# Altium footprint library LCD_Controller_Baord.PcbLib: 16 footprints
Each footprint in its own frame and in the unit in brackets; x right, y up, seen from the top. Pads: shape width x height; smd on the part's side, far side on the other; paste and mask are expansions set on the pad; w line width, h text height; cw(c..) or ccw(c..) is an arc to the next point about the centre after c.
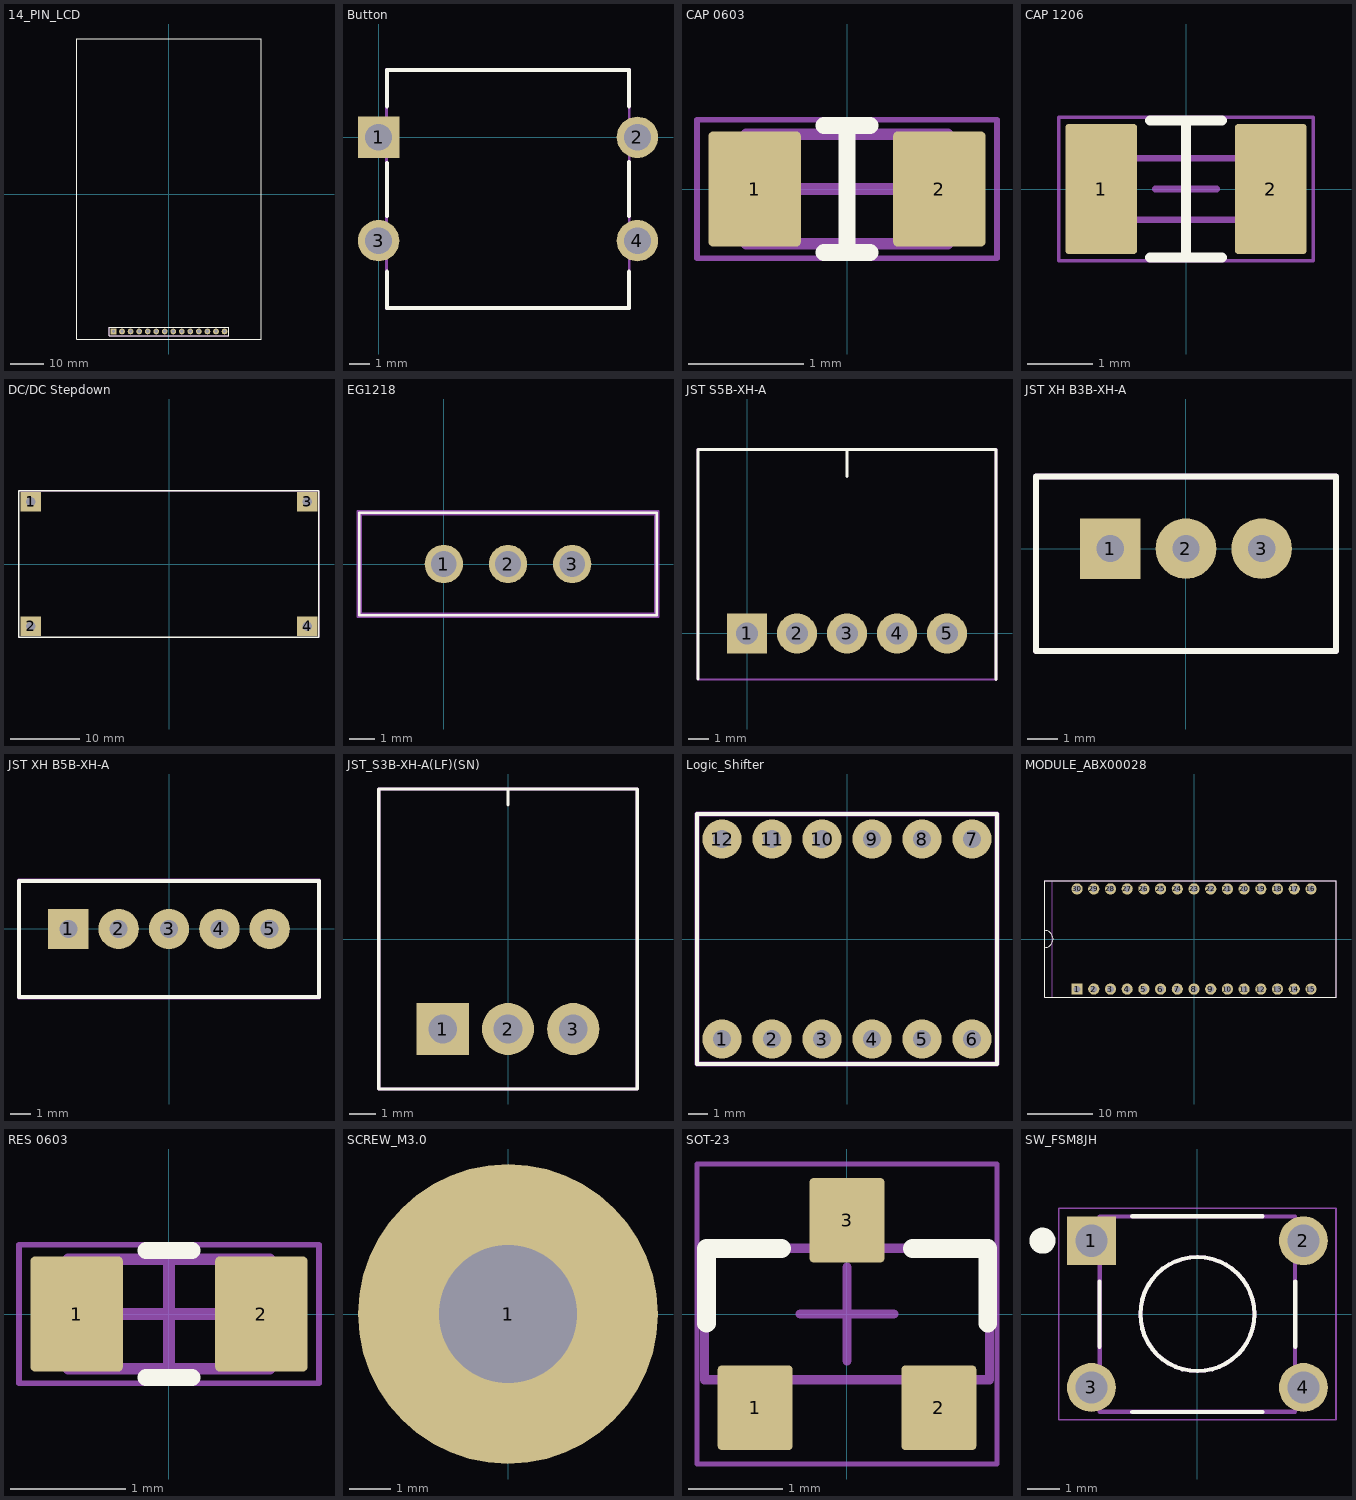
[diagram p0: the footprints below, top view; thin cyan lines are the x and y axes]

## 14_PIN_LCD [mm]
pads (14):
  rect 1.7x1.7 / inner round 1.7 / far side rect 1.7x1.7 hole 1.016: 1(-16.51,-40.767)
  round 1.7 hole 1.016: 2(-13.97,-40.767) 3(-11.43,-40.767) 4(-8.89,-40.767) 5(-6.35,-40.767) 6(-3.81,-40.767) 7(-1.27,-40.767) 8(1.27,-40.767) 9(3.81,-40.767) 10(6.35,-40.767) 11(8.89,-40.767) 12(11.43,-40.767) 13(13.97,-40.767) 14(16.51,-40.767)
Top Overlay:
  lines w0.127: -17.78,-42.037 17.78,-42.037 17.78,-39.497 -17.78,-39.497 -17.78,-42.037
  lines w0.254: -27.5,-43.014 27.5,-43.014 27.5,46.186 -27.5,46.186 -27.5,-43.014
Mechanical 13:
  lines w0.127: -17.78,-42.037 -17.78,-39.497 17.78,-39.497 17.78,-42.037 -17.78,-42.037
Mechanical 15:
  lines w0.05: -17.78,-42.037 -17.78,-39.497 17.78,-39.497 17.78,-42.037 -17.78,-42.037
3D body "320x240v2.step": height 8, standoff -4.54, extent -27.393,-42.945 27.647,46.355

## Button [mm]
pads (4):
  rect 2x2 hole 1.3: 1(0,0)
  round 2 hole 1.3: 2(12.5,0) 3(0,-5) 4(12.5,-5)
Top Overlay:
  lines w0.2: 0.4,-6.5 0.4,-8.25 12.1,-8.25 12.1,-6.5 ; 0.4,-3.8 0.4,-1.25 ; 0.4,1.5 0.4,3.25 12.1,3.25 12.1,1.5 ; 12.1,-3.8 12.1,-1.2
Mechanical 15:
  lines w0.1: 0.4,-8.25 12.1,-8.25 12.1,3.25 0.4,3.25 0.4,-8.25
Mechanical 20:
  lines w0.05: 0.35,3.3 0.35,-8.3 12.15,-8.3 12.15,3.3
  lines w0.1: 0.35,3.3 12.15,3.3

## CAP 0603 [mm] "Chip Resistor, 2-Leads, Body 1.60x0.80mm"
height 0.45
pads (2):
  rrect10% 0.8x1 smd: 1(-0.8,0) 2(0.8,0)
Top Overlay:
  lines w0.15: -0.2,-0.55 0.2,-0.55 ; -0.2,0.55 0.2,0.55 ; 0,-0.55 0,0.55
Mechanical 13:
  lines w0.1: -0.875,-0.475 0.875,-0.475 0.875,0.475 -0.875,0.475 -0.875,-0.475
Mechanical 15:
  lines w0.05: -1.3,-0.6 1.3,-0.6 1.3,0.6 -1.3,0.6 -1.3,-0.6
  lines w0.1: -0.475,0 0.475,0 ; 0,-0.475 0,0.475
3D body "0603 resistor.STEP": height 0.45, standoff 0, extent -0.8,-0.4 0.8,0.4

## CAP 1206 [mm] "Chip Resistor, 2-Leads, Body 1.60x0.80mm"
height 0.45
pads (2):
  rrect10% 1.1x2 smd: 1(-1.3,0) 2(1.3,0)
Top Overlay:
  lines w0.15: -0.55,-1.05 0.55,-1.05 ; -0.55,1.05 0.55,1.05 ; 0,-1.05 0,1
Mechanical 13:
  lines w0.1: -0.875,-0.475 0.875,-0.475 0.875,0.475 -0.875,0.475 -0.875,-0.475
Mechanical 15:
  lines w0.05: -1.95,-1.1 1.95,-1.1 1.95,1.1 -1.95,1.1 -1.95,-1.1
  lines w0.1: -0.475,0 0.475,0 ; 0,-0.475 0,0.475
Mechanical 20:
  lines w0.05: -1.95,-1.1 -1.95,1.1 1.95,1.1 1.95,-1.1 -1.95,-1.1
3D body "0603 resistor.STEP": height 0.45, standoff 0, extent -0.8,-0.4 0.8,0.4

## DC/DC Stepdown [mm]
pads (4):
  rect 3x2.8 hole 1.4: 1(-19.939,9.017) 2(-19.939,-8.89) 3(19.9,9.017) 4(19.9,-8.89)
Top Overlay:
  lines w0.2: -21.641,-10.483 -21.641,10.617 21.559,10.617 21.559,-10.483 -21.641,-10.483
Mechanical 15:
  lines w0.05: 21.559,-10.483 -21.641,-10.483 -21.641,10.617 21.59,10.617 21.59,-10.483
3D body "LM2596 v2.step": height 14.48, standoff -2.62, extent -21.844,-10.5 21.716,10.5

## EG1218 [mm]
pads (3):
  round 1.5 hole 1: 1(0,0) 2(2.5,0) 3(5,0)
Top Overlay:
  lines w0.1: -3.3,-2 -3.3,2 8.3,2 8.3,-2 -3.3,-2
Mechanical 15:
  lines w0.2: -3.3,-2 -3.3,2 8.3,2 8.3,-2 -3.3,-2
Mechanical 20:
  lines w0.1: -3.35,-2.05 -3.35,2.05 8.35,2.05 8.35,-2.05 -3.35,-2.05

## JST S5B-XH-A [mm]
pads (5):
  rect 2x2 / inner round 2 / far side rect 2x2 hole 1.1: 1(0,0)
  round 2 hole 1.1: 2(2.5,0) 3(5,0) 4(7.5,0) 5(10,0)
Top Overlay:
  lines w0.15: -2.45,-2.286 -2.45,9.2 12.45,9.2 12.45,-2.3 ; 5,7.85 5,9.2
Mechanical 15:
  lines w0.004: -2.45,-2.3 -2.45,9.2
  lines w0.1: -2.45,-2.3 12.45,-2.3
  lines w0.15: -2.45,9.2 12.45,9.2 12.45,-2.3
Mechanical 20:
  lines w0.05: -2.5,-2.3 -2.5,9.25 12.5,9.25 12.5,-2.3 -2.5,-2.3

## JST XH B3B-XH-A [mm]
height 7
pads (3):
  rect 2x2 hole 0.9: 1(-2.5,0)
  round 2 hole 0.9: 2(0,0) 3(2.5,0)
Top Overlay:
  lines w0.2: -4.95,-3.375 4.95,-3.375 4.95,2.375 -4.95,2.375 -4.95,-3.375
Mechanical 1:
  lines w0.2: -4.95,-3.375 -4.95,2.375 4.95,2.375 4.95,-3.375 -4.95,-3.375
Mechanical 15:
  lines w0.05: -4.953,-3.429 4.953,-3.429 4.953,2.413 -4.953,2.413 -4.953,-3.429
  lines w0.2: -0.5,0 0.5,0 ; 0,-0.5 0,0.5
Mechanical 20:
  lines w0.05: -4.953,-3.429 4.953,-3.429 4.953,2.413 -4.953,2.413 -4.953,-3.429
3D body "JST B3B-XH-A.STEP": height 7, standoff -3.4, extent -4.95,-3.375 4.95,2.375

## JST XH B5B-XH-A [mm]
height 7
pads (5):
  rect 2x2 hole 0.9: 1(-5,0)
  round 2 hole 0.9: 2(-2.5,0) 3(0,0) 4(2.5,0) 5(5,0)
Top Overlay:
  lines w0.2: -7.45,-3.375 7.45,-3.375 7.45,2.375 -7.45,2.375 -7.45,-3.375
Mechanical 1:
  lines w0.2: -7.45,-3.375 -7.45,2.375 7.45,2.375 7.45,-3.375 -7.45,-3.375
Mechanical 15:
  lines w0.2: -0.5,0 0.5,0 ; 0,-0.5 0,0.5 ; -7.45,-3.4 7.45,-3.4 7.45,2.4 -7.45,2.4 -7.45,-3.4
3D body "JST B5B-XH-A.STEP": height 7, standoff -3.4, extent -7.45,-3.375 7.45,2.375

## JST_S3B-XH-A(LF)(SN) [mm]
height 6.1
pads (3):
  rect 2x2 hole 1.1: 1(-2.5,-3.45)
  round 2 hole 1.1: 2(0,-3.45) 3(2.5,-3.45)
Top Overlay:
  lines w0.127: 0,5.141 0,5.75 ; -4.95,-5.75 4.95,-5.75 4.95,5.75 -4.95,5.75 -4.95,-5.75
Mechanical 13:
  lines w0.127: -4.95,-5.75 4.95,-5.75 4.95,5.75 -4.95,5.75 -4.95,-5.75
Mechanical 15:
  lines w0.05: -4.953,-5.715 4.953,-5.715 4.953,5.715 -4.953,5.715 -4.953,-5.715

## Logic_Shifter [mm]
pads (12):
  round 2 hole 0.9: 1(-6.35,-5.08) 2(-3.81,-5.08) 3(-1.27,-5.08) 4(1.27,-5.08) 5(3.81,-5.08) 6(6.35,-5.08) 7(6.35,5.08) 8(3.81,5.08) 9(1.27,5.08) 10(-1.27,5.08) 11(-3.81,5.08) 12(-6.35,5.08)
Top Overlay:
  lines w0.2: -7.62,-6.35 7.62,-6.35 7.62,6.35 -7.62,6.35 -7.62,-6.35
Mechanical 15:
  lines w0.2: -7.62,-6.35 7.62,-6.35 7.62,6.35 -7.62,6.35 -7.62,-6.35
Mechanical 20:
  lines w0.254: -7.62,-6.35 7.62,-6.35 7.62,6.35 -7.62,6.35 -7.62,-6.35

## MODULE_ABX00028 [mm]
pads (30):
  rect 1.7x1.7 / inner round 1.7 / far side rect 1.7x1.7 hole 1.016: 1(-17.78,-7.62)
  round 1.7 hole 1.016: 2(-15.24,-7.62) 3(-12.7,-7.62) 4(-10.16,-7.62) 5(-7.62,-7.62) 6(-5.08,-7.62) 7(-2.54,-7.62) 8(0,-7.62) 9(2.54,-7.62) 10(5.08,-7.62) 11(7.62,-7.62) 12(10.16,-7.62) 13(12.7,-7.62) 14(15.24,-7.62) 15(17.78,-7.62) 16(17.78,7.62) 17(15.24,7.62) 18(12.7,7.62) 19(10.16,7.62) 20(7.62,7.62) 21(5.08,7.62) 22(2.54,7.62) 23(0,7.62) 24(-2.54,7.62) 25(-5.08,7.62) 26(-7.62,7.62) 27(-10.16,7.62) 28(-12.7,7.62) 29(-15.24,7.62) 30(-17.78,7.62)
Top Overlay:
  lines w0.127: -22.733,-1.295 ccw(c-22.733,0) -22.733,1.295 ; -22.733,-8.89 -22.733,8.89 21.59,8.89 21.59,-8.89 -22.733,-8.89
Mechanical 13:
  lines w0.127: -21.59,-8.89 -21.59,8.89 21.59,8.89 21.59,-8.89 -21.59,-8.89
Mechanical 15:
  lines w0.05: -22.733,-8.89 21.59,-8.89 21.59,8.89 -22.733,8.89 -22.733,-8.89
3D body "step_temp.STEP": height 11, standoff -1, extent -22.74,-8.89 21.59,8.89

## RES 0603 [mm] "Chip Resistor, 2-Leads, Body 1.60x0.80mm"
height 0.45
pads (2):
  rrect10% 0.8x1 smd: 1(-0.8,0) 2(0.8,0)
Top Overlay:
  lines w0.15: -0.2,-0.55 0.2,-0.55 ; -0.2,0.55 0.2,0.55
Top Courtyard:
  lines w0.05: -1.3,-0.6 -1.3,0.6 1.3,0.6 1.3,-0.6 -1.3,-0.6
Mechanical 13:
  lines w0.1: -0.875,-0.475 -0.875,0.475 0.875,0.475 0.875,-0.475 -0.875,-0.475
Mechanical 15:
  lines w0.1: -0.475,0 0.475,0 ; 0,-0.475 0,0.475
Mechanical 20:
  lines w0.05: -1.3,-0.6 -1.3,0.6 1.3,0.6 1.3,-0.6 -1.3,-0.6
3D body "0603 resistor.STEP": height 0.45, standoff 0, extent -0.8,-0.4 0.8,0.4

## SCREW_M3.0 [mm] "M3 Screw Close FIt"
pads (1):
  round 7.2 hole 3.301: 1(0,0)

## SOT-23 [mm]
height 1.1
pads (3):
  rrect10% 0.8x0.9 smd: 1(-0.98,-1) 2(0.98,-1) 3(0,1)
Top Overlay:
  lines w0.2: -1.5,-0.1 -1.5,0.7 -0.7,0.7 ; 0.7,0.7 1.5,0.7 1.5,-0.1
Mechanical 13:
  lines w0.1: -1.52,-0.7 -1.52,0.7 1.52,0.7 1.52,-0.7 -1.52,-0.7
Mechanical 15:
  lines w0.05: -1.6,-1.6 -1.6,1.6 1.6,1.6 1.6,-1.6 -1.6,-1.6
  lines w0.1: -0.5,0 0.5,0 ; 0,-0.5 0,0.5
3D body: height 1.11, standoff 0.01, extent -1.52,-0.7 1.52,0.7

## SW_FSM8JH [mm]
pads (4):
  rect 1.498x1.498 / inner round 1.498 / far side rect 1.498x1.498 hole 0.99: 1(-3.25,2.25)
  round 1.498 hole 0.99: 2(3.25,2.25) 3(-3.25,-2.25) 4(3.25,-2.25)
Top Overlay:
  circle w0.127: c0,0 r1.75
  circle w0.4: c-4.75,2.25 r0.2
  lines w0.127: -3,-1 -3,1 ; -2,-3 2,-3 ; -2,3 2,3 ; 3,-1 3,1
Mechanical 13:
  circle w0.127: c0,0 r1.75
  circle w0.4: c-3.25,2.25 r0.2
  lines w0.127: -2.995,-2.995 -2.995,2.995 2.995,2.995 2.995,-2.995 -2.995,-2.995
Mechanical 15:
  lines w0.05: -4.25,-3.245 4.25,-3.245 4.25,3.25 -4.25,3.25 -4.25,-3.245
3D body "step_temp.STEP": height 9.5, standoff -3.51, extent -3.95,-2.997 3.95,2.997